# EAGLE library part S29JL064J70TFI000 (library SamacSys_Parts)
Flash Memory 64Mb 3V 70ns Parallel NOR Flash Source: Datasheet <https://www.cypress.com/file/215146/download>
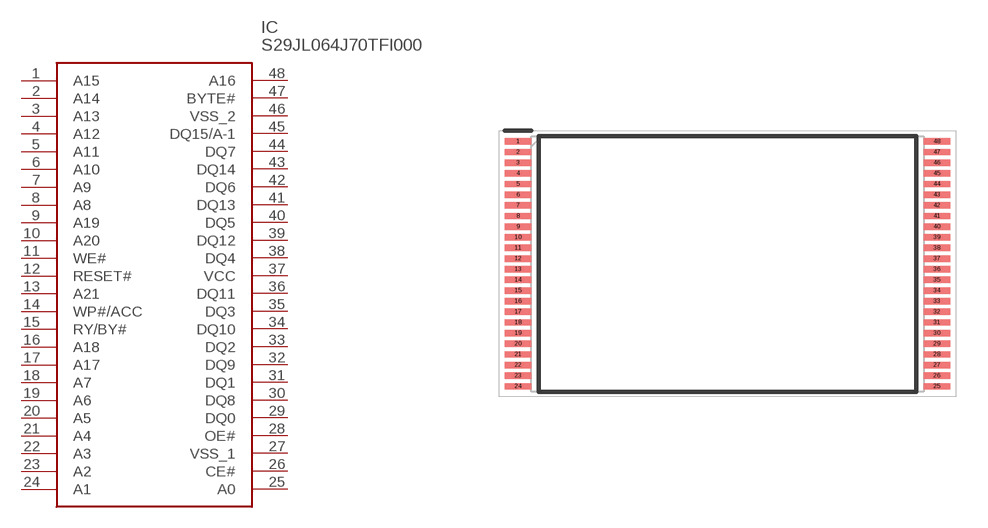
[diagram p230: symbol with the pads of SOP50P2000X120-48N; footprint SOP50P2000X120-48N]

Designator prefix IC

## S29JL064J70TFI000 (DESCRIPTION: Flash Memory 64Mb 3V 70ns Parallel NOR Flash; HEIGHT: 1.2mm; MANUFACTURER_NAME: Infineon; MANUFACTURER_PART_NUMBER: S29JL064J70TFI000; MOUSER_PART_NUMBER: 797-S29JL064J70TFI00; MOUSER_PRICE-STOCK: https://www.mouser.co.uk/ProductDetail/Cypress-Spansion/S29JL064J70TFI000?qs=yUGSM8KWSaPTufH49N0Cfw%3D%3D)  [SOP50P2000X120-48N]
1  A15
2  A14
3  A13
4  A12
5  A11
6  A10
7  A9
8  A8
9  A19
10  A20
11  WE#
12  RESET#
13  A21
14  WP#/ACC
15  RY/BY#
16  A18
17  A17
18  A7
19  A6
20  A5
21  A4
22  A3
23  A2
24  A1
25  A0
26  CE#
27  VSS_1
28  OE#
29  DQ0
30  DQ8
31  DQ1
32  DQ9
33  DQ2
34  DQ10
35  DQ3
36  DQ11
37  VCC
38  DQ4
39  DQ12
40  DQ5
41  DQ13
42  DQ6
43  DQ14
44  DQ7
45  DQ15/A-1
46  VSS_2
47  BYTE#
48  A16

## Footprint SOP50P2000X120-48N (pad centres in mm)
TS 04848-Pin Standard TSOP_1
smd 1.25 x 0.3: 1 -9.825,5.75; 2 -9.825,5.25; 3 -9.825,4.75; 4 -9.825,4.25; 5 -9.825,3.75; 6 -9.825,3.25; 7 -9.825,2.75; 8 -9.825,2.25; 9 -9.825,1.75; 10 -9.825,1.25; 11 -9.825,0.75; 12 -9.825,0.25; 13 -9.825,-0.25; 14 -9.825,-0.75; 15 -9.825,-1.25; 16 -9.825,-1.75; 17 -9.825,-2.25; 18 -9.825,-2.75; 19 -9.825,-3.25; 20 -9.825,-3.75; 21 -9.825,-4.25; 22 -9.825,-4.75; 23 -9.825,-5.25; 24 -9.825,-5.75; 25 9.825,-5.75; 26 9.825,-5.25; 27 9.825,-4.75; 28 9.825,-4.25; 29 9.825,-3.75; 30 9.825,-3.25; 31 9.825,-2.75; 32 9.825,-2.25; 33 9.825,-1.75; 34 9.825,-1.25; 35 9.825,-0.75; 36 9.825,-0.25; 37 9.825,0.25; 38 9.825,0.75; 39 9.825,1.25; 40 9.825,1.75; 41 9.825,2.25; 42 9.825,2.75; 43 9.825,3.25; 44 9.825,3.75; 45 9.825,4.25; 46 9.825,4.75; 47 9.825,5.25; 48 9.825,5.75